# Altium footprint library PCB - POWER INDUCTORS - WURTH WE-LQS 5020.PcbLib: 1 footprints
Each footprint in its own frame and in the unit in brackets; x right, y up, seen from the top. Pads: shape width x height; smd on the part's side, far side on the other; paste and mask are expansions set on the pad; w line width, h text height; cw(c..) or ccw(c..) is an arc to the next point about the centre after c.
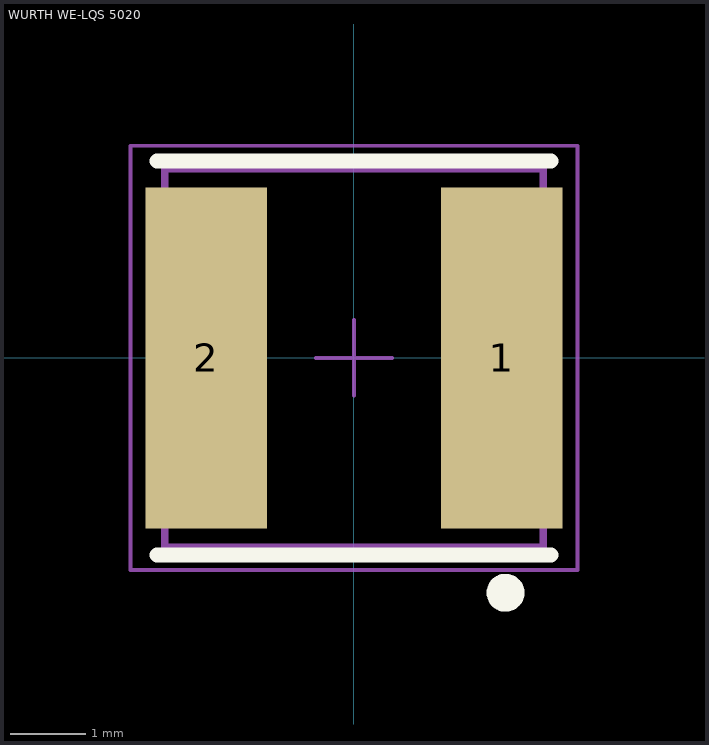
[diagram p0: the footprint, top view; thin cyan lines are the x and y axes]

## WURTH WE-LQS 5020 [mm] "SMD Power Inductor, 2-Leads, body 5x5mm"
height 2
pads (2):
  rect 1.6x4.5 smd: 1(1.95,0) 2(-1.95,0)
Top Overlay:
  circle w0.25: c2,-3.1 r0.125
  lines w0.2: -2.6,-2.6 2.6,-2.6 ; -2.6,2.6 2.6,2.6
Top 3D Body:
  circle w0.1: c1.7,-1.7 r0.3
  lines w0.1: -2.5,-2.5 -2.5,2.5 2.5,2.5 2.5,-2.5 -2.5,-2.5
Top Component Outline:
  circle w0.1: c1.7,-1.7 r0.3
  lines w0.1: -2.5,-2.5 -2.5,2.5 2.5,2.5 2.5,-2.5 -2.5,-2.5
Top Courtyard:
  lines w0.05: -0.5,0 0.5,0 ; 0,-0.5 0,0.5 ; -2.95,-2.8 2.95,-2.8 2.95,2.8 -2.95,2.8 -2.95,-2.8
3D body "IndLQS_5020S.stp": height 2, standoff 0, extent -2.5,-2.5 2.5,2.5